# Altium schematic symbol library GEIGER_TUBELND712_2025-04-18.SCHLIB: 2 symbols
Pins are listed as number, name and electrical type; pins without a type are passive.

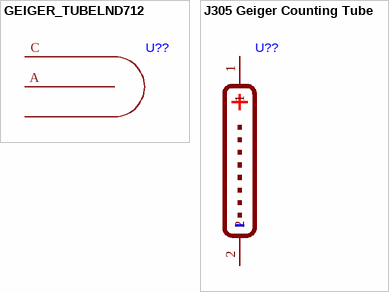
[diagram p0: symbols GEIGER_TUBELND712 to J305 Geiger Counting Tube]

## GEIGER_TUBELND712
designator U??
footprint GEIGER_TUBE
pins: A, C

## J305 Geiger Counting Tube
designator U??
footprint GEIGER-TUBE-SMD_J305
pins: 1, 2
text: +; -